# EAGLE library part XR2211ACD-F (library Exar_By_element14_Batch_1)
FSK Demodulator/Tone Decoder
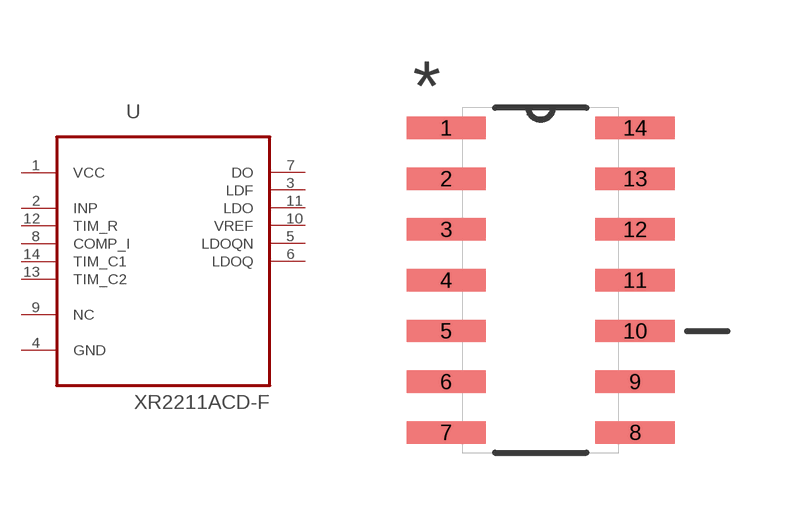
[diagram p80: symbol with the pads of SOIC127P600X175-14N; footprint SOIC127P600X175-14N]

Designator prefix U

## XR2211ACD-F (MPN: XR2211ACD-F; OC_FARNELL: -; OC_NEWARK: 24R2369; PACKAGE: SOIC-14; SUPPLIER: Exar)  [SOIC127P600X175-14N]
1  VCC  pwr
2  INP  in
3  LDF  out
4  GND  pas
5  LDOQN  out
6  LDOQ  out
7  DO  out
8  COMP_I  in
9  NC  nc
10  VREF  out
11  LDO  out
12  TIM_R  in
13  TIM_C2  in
14  TIM_C1  in

## Footprint SOIC127P600X175-14N (pad centres in mm)
smd 1.981 x 0.559: 1 -2.362,3.81; 2 -2.362,2.54; 3 -2.362,1.27; 4 -2.362,0; 5 -2.362,-1.27; 6 -2.362,-2.54; 7 -2.362,-3.81; 8 2.362,-3.81; 9 2.362,-2.54; 10 2.362,-1.27; 11 2.362,0; 12 2.362,1.27; 13 2.362,2.54; 14 2.362,3.81